# EAGLE library part TLK110 (library ethernet)
IC ETHERNET PHY 10/100 48LQFP tested: YES (etherbotix)
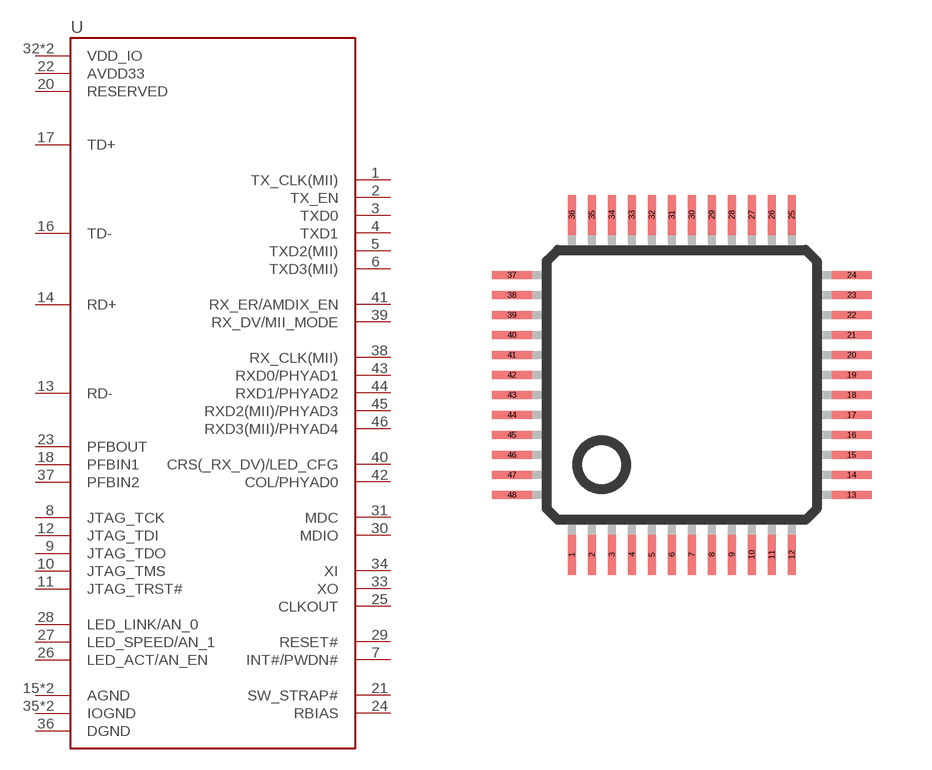
[diagram p1: symbol with the pads of LQFP48; footprint LQFP48]

Designator prefix U

## TLK110  [LQFP48]
1  TX_CLK(MII)
2  TX_EN
3  TXD0
4  TXD1
5  TXD2(MII)
6  TXD3(MII)
7  INT#/PWDN#
8  JTAG_TCK
9  JTAG_TDO
10  JTAG_TMS
11  JTAG_TRST#
12  JTAG_TDI
13  RD-
14  RD+
15  AGND
16  TD-
17  TD+
18  PFBIN1
19  AGND
20  RESERVED
21  SW_STRAP#
22  AVDD33
23  PFBOUT
24  RBIAS
25  CLKOUT
26  LED_ACT/AN_EN
27  LED_SPEED/AN_1
28  LED_LINK/AN_0
29  RESET#
30  MDIO
31  MDC
32  VDD_IO
33  XO
34  XI
35  IOGND
36  DGND
37  PFBIN2
38  RX_CLK(MII)
39  RX_DV/MII_MODE
40  CRS(_RX_DV)/LED_CFG
41  RX_ER/AMDIX_EN
42  COL/PHYAD0
43  RXD0/PHYAD1
44  RXD1/PHYAD2
45  RXD2(MII)/PHYAD3
46  RXD3(MII)/PHYAD4
47  IOGND
48  VDD_IO

## Footprint LQFP48 (pad centres in mm)
48-pin plastic LQFP (FPT-48P-M26) www.fma.fujitsu.com/pdf/e713717.pdf
smd 0.2 x 1: 1 -2.75,-4.25; 2 -2.25,-4.25; 3 -1.75,-4.25; 4 -1.25,-4.25; 5 -0.75,-4.25; 6 -0.25,-4.25; 7 0.25,-4.25; 8 0.75,-4.25; 9 1.25,-4.25; 10 1.75,-4.25; 11 2.25,-4.25; 12 2.75,-4.25; 25 2.75,4.25; 26 2.25,4.25; 27 1.75,4.25; 28 1.25,4.25; 29 0.75,4.25; 30 0.25,4.25; 31 -0.25,4.25; 32 -0.75,4.25; 33 -1.25,4.25; 34 -1.75,4.25; 35 -2.25,4.25; 36 -2.75,4.25
smd 1 x 0.2: 13 4.25,-2.75; 14 4.25,-2.25; 15 4.25,-1.75; 16 4.25,-1.25; 17 4.25,-0.75; 18 4.25,-0.25; 19 4.25,0.25; 20 4.25,0.75; 21 4.25,1.25; 22 4.25,1.75; 23 4.25,2.25; 24 4.25,2.75; 37 -4.25,2.75; 38 -4.25,2.25; 39 -4.25,1.75; 40 -4.25,1.25; 41 -4.25,0.75; 42 -4.25,0.25; 43 -4.25,-0.25; 44 -4.25,-0.75; 45 -4.25,-1.25; 46 -4.25,-1.75; 47 -4.25,-2.25; 48 -4.25,-2.75